# Altium schematic symbol library DIODE.SchLib: 1 symbol
Pins are listed as number, name and electrical type; pins without a type are passive.

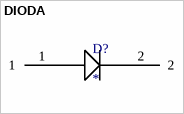
[diagram p0: symbol DIODA]

## DIODA
designator D?
footprint DIODE SS14 SODFL (SODFL, 2-Leads, Body 2,73x5,20mm, IPC Medium Density)
pins: 1, 2